# Altium schematic symbol library OpenPLCv0.2.0_Diode.SchLib: 10 symbols
Pins are listed as number, name and electrical type; pins without a type are passive.

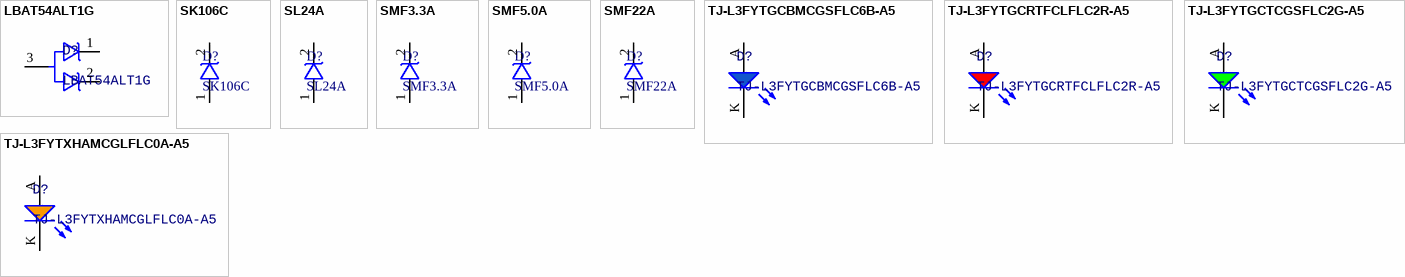
[diagram p0: symbols LBAT54ALT1G to TJ-L3FYTXHAMCGLFLC0A-A5]

## LBAT54ALT1G
designator D?
30V 200mA 320mV @ 1mA SOT-23(SOT-23-3) Schottky Barrier Diodes (SBD) RoHS
footprint SOT23-3
pins: 1 CATHODE, 2 CATHODE, 3 ANODE

## SK106C
designator D?
60V 10A 850mV @ 10A SMC(DO-214AB) Schottky Barrier Diodes (SBD) RoHS
footprint DO-214AB
pins: 1 ANODE, 2 CATHODE

## SL24A
designator D?
40V 2A 420mV @ 2A SMA(DO-214AC) Schottky Barrier Diodes (SBD) RoHS
footprint DO-214AC
pins: 1 ANODE, 2 CATHODE

## SMF3.3A
designator D?
Unidirectional 3.3V 5.2V 8V 25A SOD-123 TVS RoHS
footprint SOD-123FL
pins: 1 ANODE, 2 CATHODE

## SMF5.0A
designator D?
Unidirectional 5V 6.4V 9.2V 21.8A SMF(SOD123FL) TVS RoHS
footprint SOD-123FL
pins: 1 ANODE, 2 CATHODE

## SMF22A
designator D?
Unidirectional 22V 24.4V 35.5V 5.6A SOD-123F TVS RoHS
footprint SOD-123FL
pins: 1 ANODE, 2 CATHODE

## TJ-L3FYTGCBMCGSFLC6B-A5
designator D?
LED 3mm Blue 460nm~470nm 2.7V~3.6V Through Hole Light Emitting Diodes (LED) RoHS C330760
footprint LED_3MM_SPACED_6.4MM_BLUE
pins: A, K

## TJ-L3FYTGCRTFCLFLC2R-A5
designator D?
LED 3mm Red 620nm~630nm 1.8V~2.6V Through Hole Light Emitting Diodes (LED) RoHS C331031
footprint LED_3MM_SPACED_6.4MM_RED
pins: A, K

## TJ-L3FYTGCTCGSFLC2G-A5
designator D?
LED 3mm Green 515nm~530nm 1.8V~3.6V Through Hole Light Emitting Diodes (LED) RoHS C330751
footprint LED_3MM_SPACED_6.4MM_GREEN
pins: A, K

## TJ-L3FYTXHAMCGLFLC0A-A5
designator D?
600nm~610nm 1.8V~2.6V - - Through Hole Light Emitting Diodes (LED) ROHS 3mm
footprint LED_3MM_SPACED_6.4MM_YELLOW
pins: A, K